# EAGLE library part 255-507/000-009/999-950 (library con-wago_255)
Serie 255, Ex-e-II-Klemmenleiste für Leiterplatten 2 Lötstifte/Pol / Series 255, Ex e II PCB terminal strip 2 solder pins/pole Polzahl / Pole No.: 7 Rastermaß / Pitch: 7.62 mm Bemessungsspannung / Rated Voltage: 275 V Nennstrom / Nominal Current: 16 A Leiterquerschnitt / Conductor Size: 0.08 - 2.5 mm² Anschlusstechnik / Connection Technology: CAGE CLAMP® Lötstiftlänge: / Solder Pin Length: 4 mm Leitereinführung (zur Platine) / Conductor entry angle (to PCB): 90 ° Farbe / Color: lichtgrau / light gray Stand: 01.01.2012. Die jeweils aktuellen Daten zu diesem Artikel finden Sie in unserem Produktkatalog, den Sie unter www.wago.com einsehen können. As of: 01/01/2012. Please find the newest data for this article in our product catalogue, which can be viewed under www.wago.com.
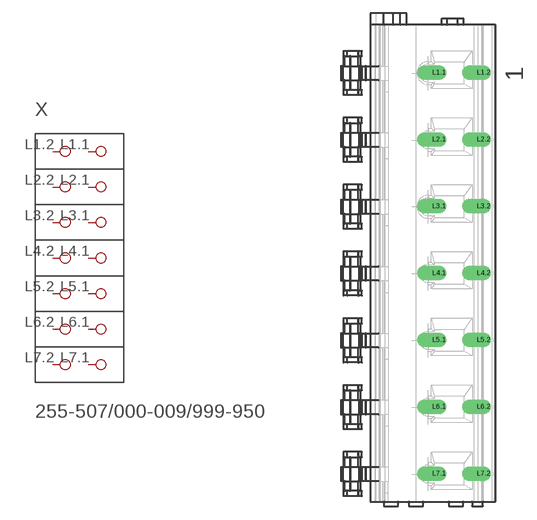
[diagram p85: symbol with the pads of P-255-507; footprint P-255-507]

Designator prefix X

## 255-507/000-009/999-950  [P-255-507]
L1.1  P1.1
L1.2  P1.2
L2.1  P2.1
L2.2  P2.2
L3.1  P3.1
L3.2  P3.2
L4.1  P4.1
L4.2  P4.2
L5.1  P5.1
L5.2  P5.2
L6.1  P6.1
L6.2  P6.2
L7.1  P7.1
L7.2  P7.2

## Footprint P-255-507 (pad centres in mm)
drill 1.1 offset: L1.1 2.359,21; L1.2 7.359,21; L2.1 2.359,13.5; L2.2 7.359,13.5; L3.1 2.359,6; L3.2 7.359,6; L4.1 2.359,-1.5; L4.2 7.359,-1.5; L5.1 2.359,-9; L5.2 7.359,-9; L6.1 2.359,-16.5; L6.2 7.359,-16.5; L7.1 2.359,-24; L7.2 7.359,-24